# EAGLE library part XBEE (library HyTechDevices - Copy)
Source: Adafruit <https://github.com/adafruit/Adafruit-Eagle-Library>
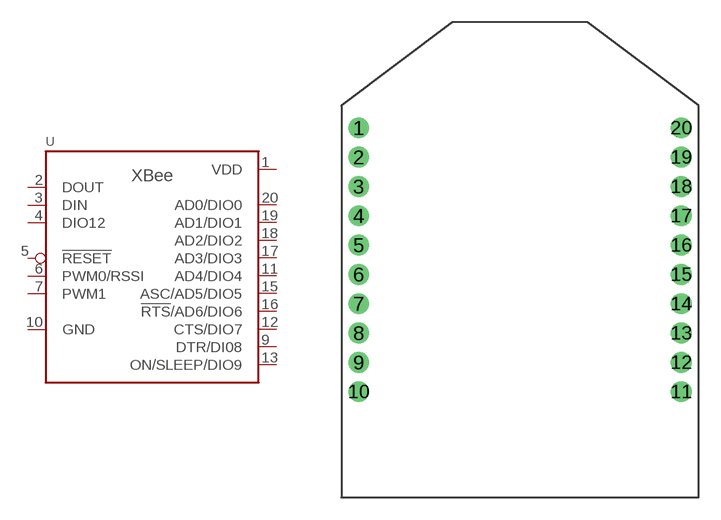
[diagram p5: symbol with the pads of XBEE; footprint XBEE]

Designator prefix -

## XBEE  [XBEE]
1  VDD  pwr
2  DOUT  out
3  DIN  in
4  DIO12
5  !RESET  in
6  PWM0/RSSI  out
7  PWM1  out
9  DTR/DI08  in
10  GND  pwr
11  AD4/DIO4
12  CTS/DIO7
13  ON/SLEEP/DIO9  out
15  ASC/AD5/DIO5
16  !RTS!/AD6/DIO6
17  AD3/DIO3
18  AD2/DIO2
19  AD1/DIO1
20  AD0/DIO0

## Footprint XBEE (pad centres in mm)
XBee Datasheet <https://www.sparkfun.com/datasheets/Wireless/Zigbee/XBee-Dimensional.pdf> Header <https://drawings-pdf.s3.amazonaws.com/10483.pdf>
drill 0.8 pad 1.422: 1 -11,0; 2 -11,-2; 3 -11,-4; 4 -11,-6; 5 -11,-8; 6 -11,-10; 7 -11,-12; 8 -11,-14; 9 -11,-16; 10 -11,-18; 11 11,-18; 12 11,-16; 13 11,-14; 14 11,-12; 15 11,-10; 16 11,-8; 17 11,-6; 18 11,-4; 19 11,-2; 20 11,0